# Altium footprint library PcbLib1.PcbLib: 22 footprints (part 1 of 2)
Each footprint in its own frame and in the unit in brackets; x right, y up, seen from the top. Pads: shape width x height; smd on the part's side, far side on the other; paste and mask are expansions set on the pad; w line width, h text height; cw(c..) or ccw(c..) is an arc to the next point about the centre after c.
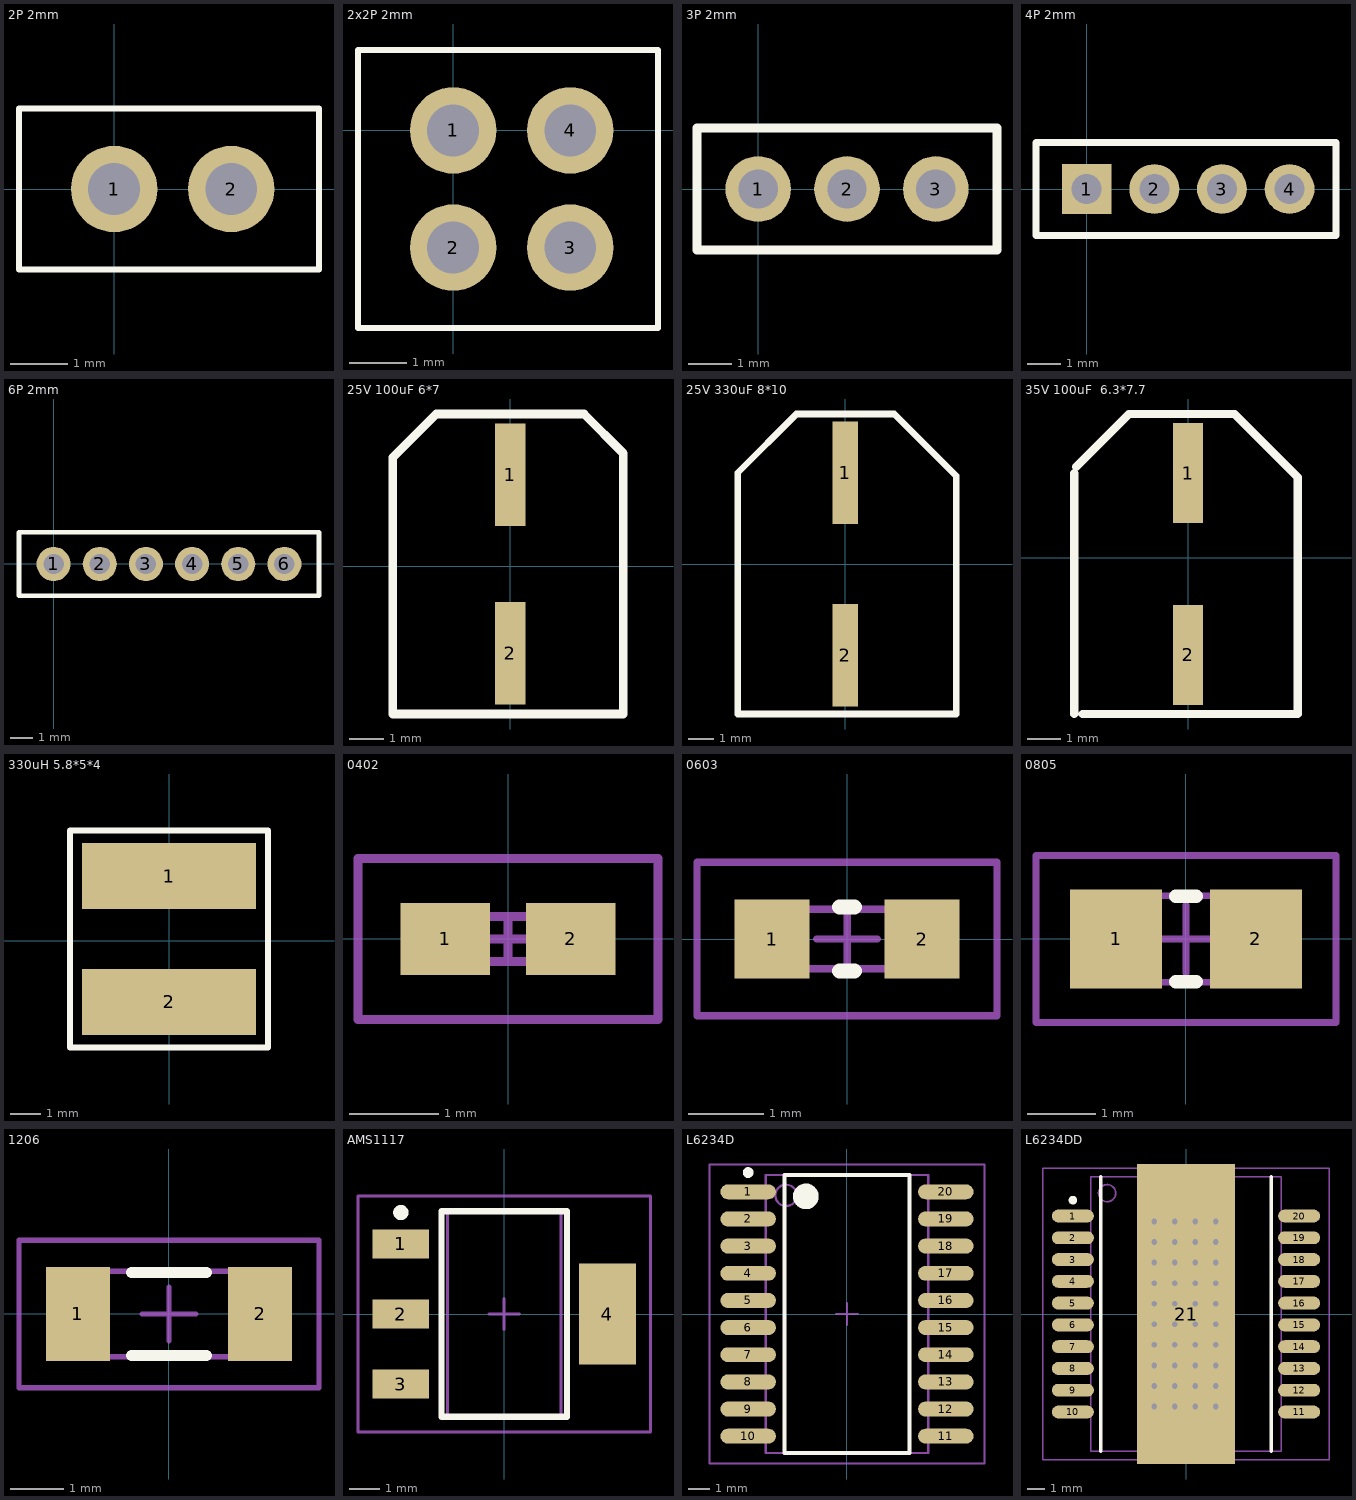
[diagram p0: the footprints below, top view; thin cyan lines are the x and y axes]

## 2P 2mm [mm]
pads (2):
  round 1.5 hole 0.9: 1(0,0) 2(2.032,0)
Top Overlay:
  lines w0.1: -1.651,-1.397 -1.651,1.397 3.556,1.397 3.556,-1.397 -1.651,-1.397

## 2x2P 2mm [mm]
pads (4):
  round 1.5 hole 0.9: 1(0,0) 2(0,-2.032) 3(2.032,-2.032) 4(2.032,0)
Top Overlay:
  lines w0.1: -1.651,-3.429 3.556,-3.429 3.556,1.397 -1.651,1.397 -1.651,-3.429

## 3P 2mm [mm]
pads (3):
  round 1.5 hole 0.9: 1(0,0) 2(2.032,0) 3(4.064,0)
Top Overlay:
  lines w0.2: -1.397,-1.397 5.461,-1.397 5.461,1.397 -1.397,1.397 -1.397,-1.397

## 4P 2mm [mm]
pads (4):
  rect 1.5x1.5 hole 0.9: 1(0,0)
  round 1.5 hole 0.9: 2(2.032,0) 3(4.064,0) 4(6.096,0)
Top Overlay:
  lines w0.2: -1.524,-1.397 -1.524,0.261 -1.524,1.397 7.493,1.397 7.493,-1.397 -1.524,-1.397

## 6P 2mm [mm]
pads (6):
  round 1.5 hole 0.9: 1(0,0) 2(2.032,0) 3(4.064,0) 4(6.096,0) 5(8.128,0) 6(10.16,0)
Top Overlay:
  lines w0.2: -1.524,-1.397 -1.524,0.261 -1.524,1.397 11.684,1.397 11.684,-1.397 -1.524,-1.397

## 25V 100uF 6*7 [mm]
pads (2):
  rect 0.9x3 smd: 1(0,2.667) 2(0,-2.54)
Top Overlay:
  lines w0.254: -3.429,-4.318 3.302,-4.318 3.302,3.302 2.159,4.445 -2.159,4.445 -3.429,3.175 -3.429,-4.318

## 25V 330uF 8*10 [mm]
pads (2):
  rect 1x4 smd: 1(0,3.556) 2(0,-3.556)
Top Overlay:
  lines w0.254: -4.191,-5.842 4.318,-5.842 4.318,3.429 1.905,5.842 -1.905,5.842 -4.191,3.556 -4.191,-5.842

## 35V 100uF  6.3*7.7 [mm] "贴片电解电容100uF"
pads (2):
  rect 0.9x3 smd: 1(0,2.54) 2(0,-2.921)
Top Overlay:
  lines w0.254: -3.429,-4.699 -3.429,2.54 ; -3.365,2.73 -1.778,4.318 1.397,4.318 3.302,2.413 3.302,-4.699 -3.175,-4.699

## 330uH 5.8*5*4 [mm]
pads (2):
  rect 5.8x2.2 smd: 1(0,2.159) 2(0,-2.032)
Top Overlay:
  lines w0.2: -3.302,-3.556 -3.302,2.166 -3.302,3.683 3.302,3.683 3.302,-3.556 -3.302,-3.556

## 0402 [mm] "Chip Resistor, 2-Leads, Body 1.0x0.5mm, IPC Low Density"
height 0.5
pads (2):
  rect 1x0.8 smd: 1(-0.7,0) 2(0.7,0)
Mechanical 13:
  lines w0.1: -0.5,-0.25 0.5,-0.25 0.5,0.25 -0.5,0.25 -0.5,-0.25
Mechanical 15:
  lines w0.1: -0.25,0 0.25,0 ; 0,-0.25 0,0.25 ; -1.675,-0.9 1.675,-0.9 1.675,0.9 -1.675,0.9 -1.675,-0.9
3D body: height 0.5, standoff 0, extent -0.5,-0.25 0.5,0.25

## 0603 [mm] "Chip Resistor, 2-Leads, Body 1.6x0.8mm, IPC Low Density"
height 0.5
pads (2):
  rect 1x1.05 smd: 1(-1,0) 2(1,0)
Top Overlay:
  lines w0.2: -0.1,-0.425 0.1,-0.425 ; -0.1,0.425 0.1,0.425
Mechanical 13:
  lines w0.1: -0.8,-0.4 0.8,-0.4 0.8,0.4 -0.8,0.4 -0.8,-0.4
Mechanical 15:
  lines w0.1: -0.4,0 0.4,0 ; 0,-0.4 0,0.4 ; -2,-1.025 2,-1.025 2,1.025 -2,1.025 -2,-1.025
3D body: height 0.5, standoff 0, extent -0.8,-0.4 0.8,0.4

## 0805 [mm] "Chip Resistor, 2-Leads, Body 2.0x1.3mm, IPC Low Density"
height 1.25
pads (2):
  rect 1.35x1.45 smd: 1(-1.025,0) 2(1.025,0)
Top Overlay:
  lines w0.2: -0.15,-0.625 0.15,-0.625 ; -0.15,0.625 0.15,0.625
Mechanical 13:
  lines w0.1: -1,-0.635 1,-0.635 1,0.635 -1,0.635 -1,-0.635
Mechanical 15:
  lines w0.1: -0.5,0 0.5,0 ; 0,-0.5 0,0.5 ; -2.2,-1.225 2.2,-1.225 2.2,1.225 -2.2,1.225 -2.2,-1.225
3D body: height 1.25, standoff 0, extent -1,-0.635 1,0.635

## 1206 [mm] "Chip Resistor, 2-Leads, Body 3.2x1.6mm, IPC Low Density"
height 1.6
pads (2):
  rect 1.2x1.75 smd: 1(-1.7,0) 2(1.7,0)
Top Overlay:
  lines w0.2: -0.7,-0.775 0.7,-0.775 ; -0.7,0.775 0.7,0.775
Mechanical 13:
  lines w0.1: -1.6,-0.8 -1.6,0.8 1.6,0.8 1.6,-0.8 -1.6,-0.8
Mechanical 15:
  lines w0.1: -0.5,0 0.5,0 ; 0,-0.5 0,0.5 ; -2.8,-1.375 -2.8,1.375 2.8,1.375 2.8,-1.375 -2.8,-1.375
3D body: height 1.6, standoff 0, extent -1.6,-0.8 1.6,0.8

## AMS1117 [mm] "SOT223, 4-Leads, Body 6.7x7.3mm (max), Pitch 2.29mm, IPC Low Density"
height 1.8
pads (4):
  rect 1.85x0.95 smd: 1(-3.375,2.29) 2(-3.375,0) 3(-3.375,-2.29)
  rect 1.85x3.3 smd: 4(3.375,0)
Top Overlay:
  circle w0.25: c-3.375,3.315 r0.125
  lines w0.2: -2.05,-3.355 -2.05,3.355 2.05,3.355 2.05,-3.355 -2.05,-3.355
Mechanical 13:
  lines w0.1: -1.855,-3.355 -1.855,3.355 1.855,3.355 1.855,-3.355 -1.855,-3.355
Mechanical 15:
  lines w0.1: -0.5,0 0.5,0 ; 0,-0.5 0,0.5 ; -4.775,-3.855 -4.775,3.855 4.775,3.855 4.775,-3.855 -4.775,-3.855
3D body: height 1.8, standoff 0.02, extent -1.855,-3.355 1.855,3.355

## L6234D [mm] "SOIC, 20-Leads, Body 13.0x7.6mm (max), Pitch 1.27mm, IPC Low Density"
height 2.65
pads (20):
  oval 2.6x0.7 smd: 1(-4.625,5.715) 2(-4.625,4.445) 3(-4.625,3.175) 4(-4.625,1.905) 5(-4.625,0.635) 6(-4.625,-0.635) 7(-4.625,-1.905) 8(-4.625,-3.175) 9(-4.625,-4.445) 10(-4.625,-5.715) 11(4.625,-5.715) 12(4.625,-4.445) 13(4.625,-3.175) 14(4.625,-1.905) 15(4.625,-0.635) 16(4.625,0.635) 17(4.625,1.905) 18(4.625,3.175) 19(4.625,4.445) 20(4.625,5.715)
Top Overlay:
  circle w0.6: c-1.925,5.5 r0.3
  circle w0.25: c-4.625,6.615 r0.125
  lines w0.2: -2.925,-6.5 2.925,-6.5 2.925,6.5 -2.925,6.5 -2.925,-6.5
Mechanical 13:
  circle w0.1: c-2.85,5.55 r0.5
  lines w0.1: -3.8,-6.5 3.8,-6.5 3.8,6.5 -3.8,6.5 -3.8,-6.5
Mechanical 15:
  lines w0.1: -0.5,0 0.5,0 ; 0,-0.5 0,0.5 ; -6.425,-7 6.425,-7 6.425,7 -6.425,7 -6.425,-7
3D body: height 2.65, standoff 0.23, extent -3.8,-6.5 3.8,6.5

## L6234DD [mm] "SOIC, 20-Leads, Body 16.0x11.1mm (max), Pitch 1.27mm, IPC Low Density"
height 3.6
pads (21):
  oval 2.45x0.75 smd: 1(-6.6,5.715) 2(-6.6,4.445) 3(-6.6,3.175) 4(-6.6,1.905) 5(-6.6,0.635) 6(-6.6,-0.635) 7(-6.6,-1.905) 8(-6.6,-3.175) 9(-6.6,-4.445) 10(-6.6,-5.715) 11(6.6,-5.715) 12(6.6,-4.445) 13(6.6,-3.175) 14(6.6,-1.905) 15(6.6,-0.635) 16(6.6,0.635) 17(6.6,1.905) 18(6.6,3.175) 19(6.6,4.445) 20(6.6,5.715)
  rect 5.7x17.5 smd: 21(0,0)
via 1.743,-5.4 diameter 0.66 hole 0.33
via 0.543,-5.4 diameter 0.66 hole 0.33
via -0.657,-5.4 diameter 0.66 hole 0.33
via -1.857,-5.4 diameter 0.66 hole 0.33
via 1.743,-4.2 diameter 0.66 hole 0.33
via 0.543,-4.2 diameter 0.66 hole 0.33
via -0.657,-4.2 diameter 0.66 hole 0.33
via -1.857,-4.2 diameter 0.66 hole 0.33
via 1.743,-3 diameter 0.66 hole 0.33
via 0.543,-3 diameter 0.66 hole 0.33
via -0.657,-3 diameter 0.66 hole 0.33
via -1.857,-3 diameter 0.66 hole 0.33
via 1.743,-1.8 diameter 0.66 hole 0.33
via 0.543,-1.8 diameter 0.66 hole 0.33
via -0.657,-1.8 diameter 0.66 hole 0.33
via -1.857,-1.8 diameter 0.66 hole 0.33
via 1.743,-0.6 diameter 0.66 hole 0.33
via 0.543,-0.6 diameter 0.66 hole 0.33
via -0.657,-0.6 diameter 0.66 hole 0.33
via -1.857,-0.6 diameter 0.66 hole 0.33
via 1.743,0.6 diameter 0.66 hole 0.33
via 0.543,0.6 diameter 0.66 hole 0.33
via -0.657,0.6 diameter 0.66 hole 0.33
via -1.857,0.6 diameter 0.66 hole 0.33
via 1.743,1.8 diameter 0.66 hole 0.33
via 0.543,1.8 diameter 0.66 hole 0.33
via -0.657,1.8 diameter 0.66 hole 0.33
via -1.857,1.8 diameter 0.66 hole 0.33
via 1.743,3 diameter 0.66 hole 0.33
via 0.543,3 diameter 0.66 hole 0.33
via -0.657,3 diameter 0.66 hole 0.33
via -1.857,3 diameter 0.66 hole 0.33
via 1.743,4.2 diameter 0.66 hole 0.33
via 0.543,4.2 diameter 0.66 hole 0.33
via -0.657,4.2 diameter 0.66 hole 0.33
via -1.857,4.2 diameter 0.66 hole 0.33
via 1.743,5.4 diameter 0.66 hole 0.33
via 0.543,5.4 diameter 0.66 hole 0.33
via -0.657,5.4 diameter 0.66 hole 0.33
via -1.857,5.4 diameter 0.66 hole 0.33
Top Overlay:
  circle w0.25: c-6.6,6.64 r0.125
  lines w0.2: -4.975,-8 -4.975,8 ; 4.975,-8 4.975,8
Mechanical 13:
  circle w0.1: c-4.6,7.05 r0.5
  lines w0.1: -5.55,-8 5.55,-8 5.55,8 -5.55,8 -5.55,-8
Mechanical 15:
  lines w0.1: 0.643,0 1.643,0 ; 1.143,-0.5 1.143,0.5 ; -8.35,-8.5 8.35,-8.5 8.35,8.5 -8.35,8.5 -8.35,-8.5
3D body: height 3.6, standoff 0.23, extent -5.55,-8 5.55,8